# EAGLE library part PIN-HEAD-1X3 (library skynet_other)
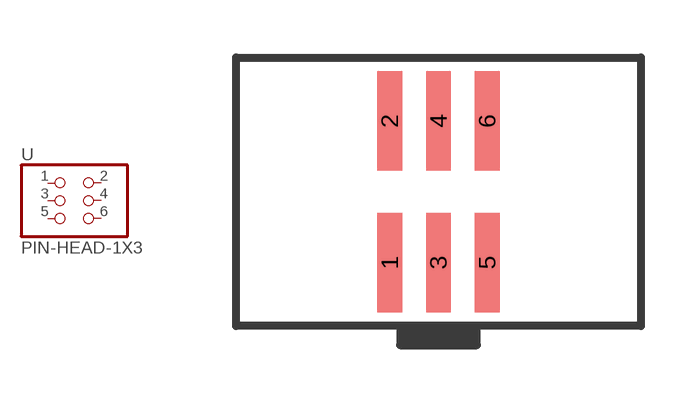
[diagram p1: symbol with the pads of PIN-HEAD-1X3-SMD; footprint PIN-HEAD-1X3-SMD]

Designator prefix -

## PIN-HEAD-1X3  [PIN-HEAD-1X3-SMD]
1  1  pas
2  2  pas
3  3  pas
4  4  pas
5  5  pas
6  6  pas

## Footprint PIN-HEAD-1X3-SMD (pad centres in mm)
smd 0.65 x 2.6: 1 -1.27,-1.85; 2 -1.27,1.85; 3 0,-1.85; 4 0,1.85; 5 1.27,-1.85; 6 1.27,1.85